# EAGLE library part MC14528BDG (library on-semiconductor-01)
Dual Monostable Multivibrator
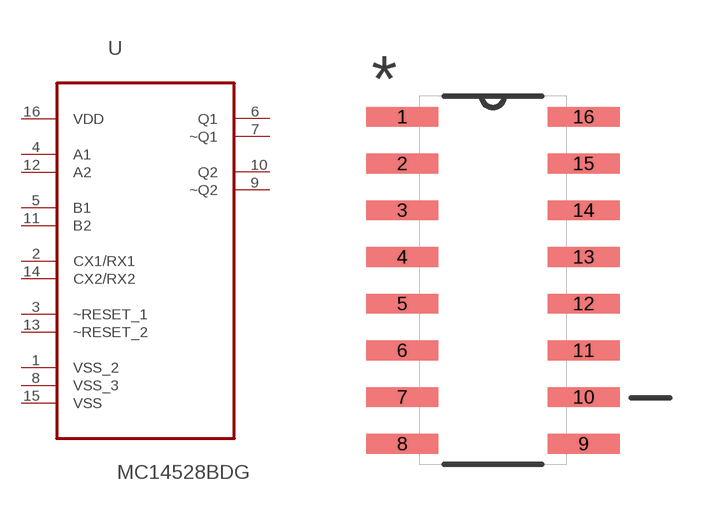
[diagram p287: symbol with the pads of SOIC127P600X175-16N; footprint SOIC127P600X175-16N]

Designator prefix U

## MC14528BDG (MPN: MC14528BDG; OC_FARNELL: 9666567; OC_NEWARK: 26K3964; PACKAGE: SOIC-16; SUPPLIER: ON SEMICONDUCTOR)  [SOIC127P600X175-16N]
1  VSS_2  pas
2  CX1/RX1  in
3  ~RESET_1  in
4  A1  in
5  B1  in
6  Q1  out
7  ~Q1  out
8  VSS_3  pas
9  ~Q2  out
10  Q2  out
11  B2  in
12  A2  in
13  ~RESET_2  in
14  CX2/RX2  in
15  VSS  pas
16  VDD  pwr

## Footprint SOIC127P600X175-16N (pad centres in mm)
smd 1.956 x 0.533: 1 -2.464,4.445; 2 -2.464,3.175; 3 -2.464,1.905; 4 -2.464,0.635; 5 -2.464,-0.635; 6 -2.464,-1.905; 7 -2.464,-3.175; 8 -2.464,-4.445; 9 2.464,-4.445; 10 2.464,-3.175; 11 2.464,-1.905; 12 2.464,-0.635; 13 2.464,0.635; 14 2.464,1.905; 15 2.464,3.175; 16 2.464,4.445